# Altium schematic symbol library OPL530.Schlib: 1 symbol
Pins are listed as number, name and electrical type; pins without a type are passive.

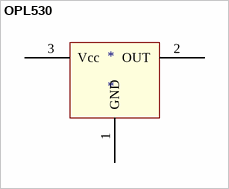
[diagram p0: symbol OPL530]

## OPL530
designator *
pins: 1 GND, 2 OUT, 3 Vcc